# Altium footprint library Component.PcbLib: 79 footprints (part 5 of 5)
Each footprint in its own frame and in the unit in brackets; x right, y up, seen from the top. Pads: shape width x height; smd on the part's side, far side on the other; paste and mask are expansions set on the pad; w line width, h text height; cw(c..) or ccw(c..) is an arc to the next point about the centre after c.
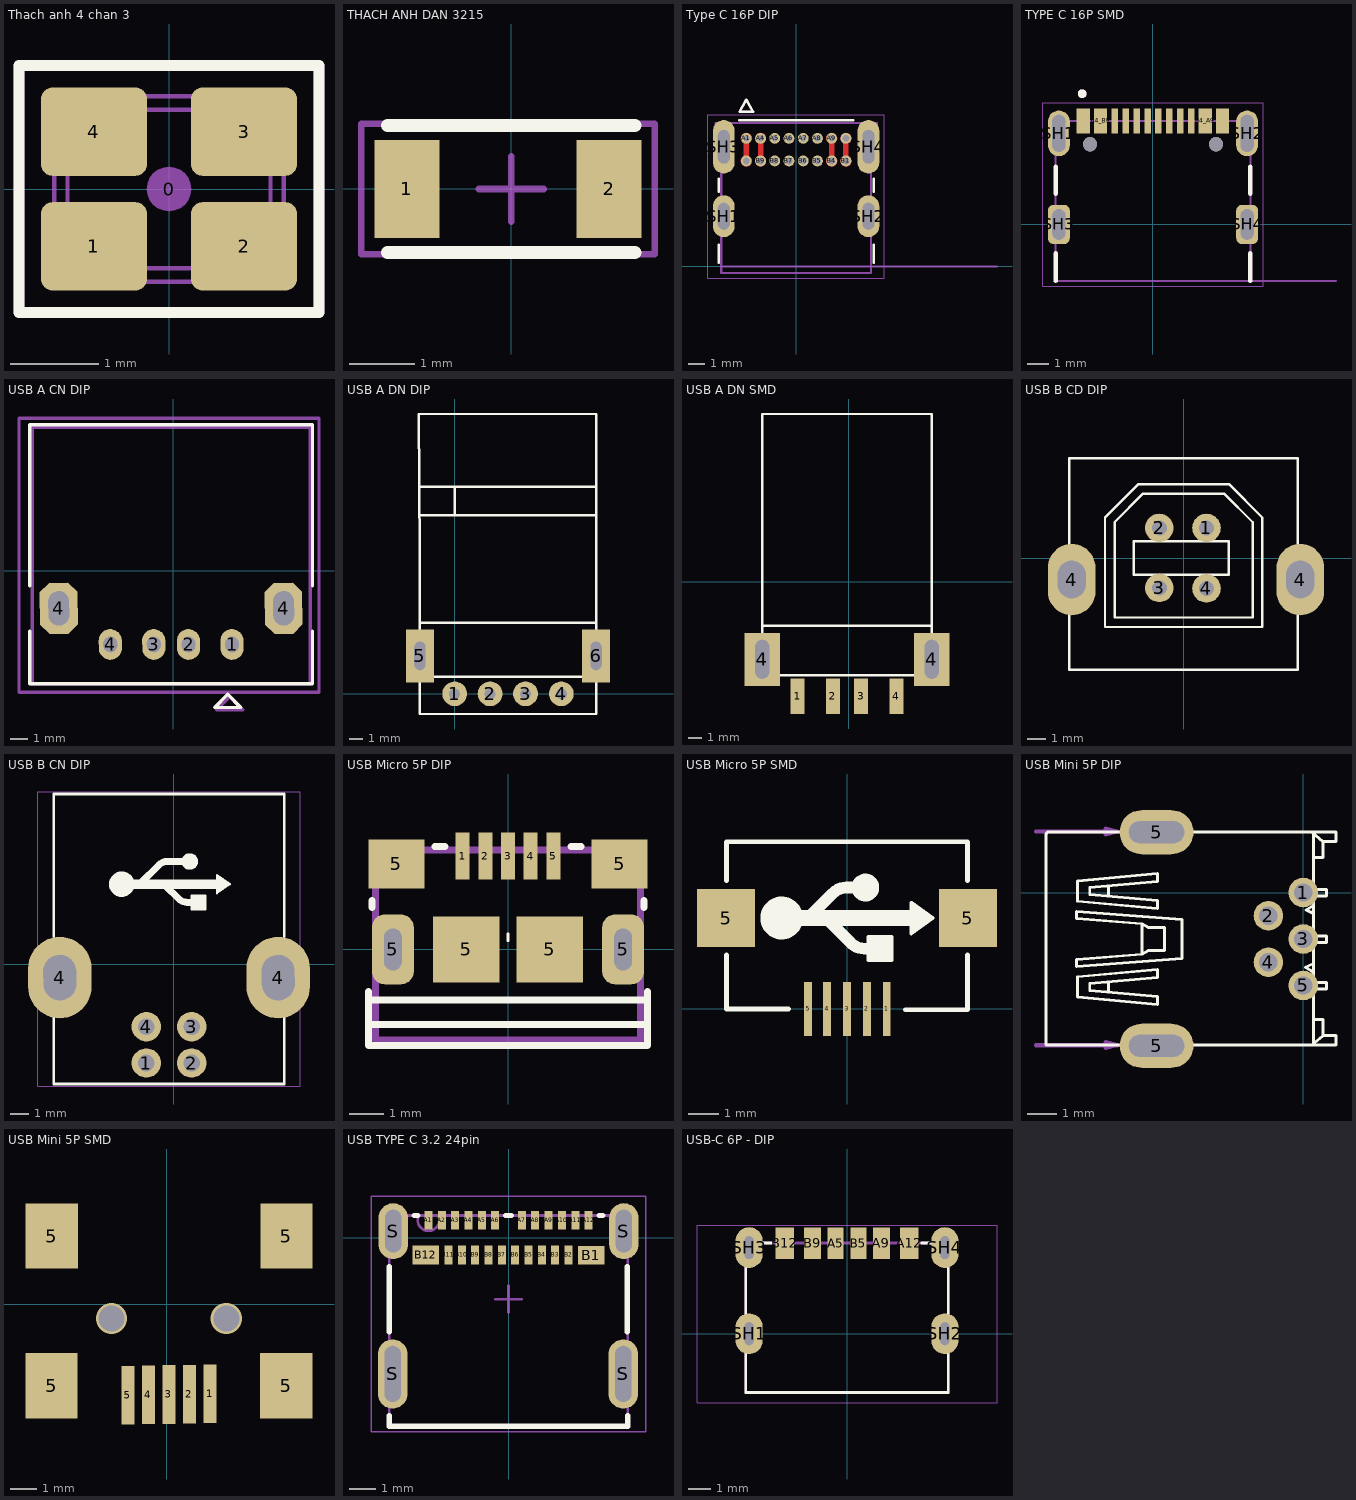
[diagram p4: the footprints below, top view; thin cyan lines are the x and y axes]

## Thach anh 4 chan 3 [mm] "SMD Crystal 4-lead leadless package"
height 0.55
pads (5):
  round 0.508 on Mech15: 0(0,0)
  rrect25% 1.2x1 smd mask+0.075: 1(-0.85,-0.65) 2(0.85,-0.65) 3(0.85,0.65) 4(-0.85,0.65)
Top Overlay:
  lines w0.127: -1.7,-1.4 1.7,-1.4 1.7,1.4 -1.7,1.4 -1.7,-1.4
Mechanical 13:
  lines w0.05: -1.3,-0.87 cw(c-1.3,-1.05) -1.12,-1.05 1.12,-1.05 cw(c1.3,-1.05) 1.3,-0.87 1.3,0.87 cw(c1.3,1.05) 1.12,1.05 -1.12,1.05 cw(c-1.3,1.05) -1.3,0.87 -1.3,-0.87 ; -1.15,-0.75 ccw(c-1,-0.75) -1,-0.9 1,-0.9 ccw(c1,-0.75) 1.15,-0.75 1.15,0.75 ccw(c1,0.75) 1,0.9 -1,0.9 ccw(c-1,0.75) -1.15,0.75 -1.15,-0.75
Mechanical 15:
  lines w0.127: -1.7,-1.4 -1.7,1.4 1.7,1.4 1.7,-1.4 -1.7,-1.4
3D body "Crystal NDK NX2520SA series.STEP": height 0.55, standoff 0, extent -1.3,-1.05 1.3,1.05

## THACH ANH DAN 3215 [mm] "Thach Anh Dan 5.08mm"
height 3
pads (2):
  rect 1x1.5 smd: 1(-1.6,0) 2(1.5,0)
Top Overlay:
  lines w0.2: -1.9,-0.975 1.9,-0.975 ; -1.9,0.975 1.9,0.975
Mechanical 13:
  lines w0.1: -2.3,-1 -2.3,1 2.2,1 2.2,-1 -2.3,-1
Mechanical 15:
  lines w0.1: -0.5,0 0.5,0 ; 0,-0.5 0,0.5
3D body "User Library-NDK_NX3215SA.STEP": height 0.8, standoff 0, extent -1.6,-0.75 1.6,0.75

## Type C 16P DIP [mm]
height 3.36
pads (20):
  round 0.648 hole 0.4 mask+0.064: A1(-2.975,7.65) A4(-2.125,7.65) A5(-1.275,7.65) A6(-0.425,7.65) A7(0.425,7.65) A8(1.275,7.65) A9(2.125,7.65) A12(2.975,7.65) B1(2.975,6.3) B4(2.125,6.3) B5(1.275,6.3) B6(0.425,6.3) B7(-0.425,6.3) B8(-1.275,6.3) B9(-2.125,6.3) B12(-2.975,6.3)
  oval 1.3x2.5 hole 0.7 slot 1.6 at 90 deg mask+0.064: SH1(-4.32,3) SH2(4.32,3)
  oval 1.3x3.2 hole 0.7 slot 2 at 90 deg mask+0.064: SH3(-4.32,7.15) SH4(4.32,7.15)
Top Layer:
  region: -2.918,7.969 -2.863,7.954 -2.811,7.929 -2.764,7.896 -2.724,7.855 -2.692,7.808 -2.669,7.756 -2.655,7.7 -2.651,7.643 -2.657,7.586 -2.673,7.531 -2.699,7.48 -2.733,7.434 -2.775,7.395 -2.825,7.363 -2.825,6.587 -2.775,6.555 -2.733,6.516 -2.699,6.47 -2.673,6.419 -2.657,6.364 -2.651,6.307 -2.655,6.25 -2.669,6.194 -2.692,6.142 -2.724,6.095 -2.764,6.054 -2.811,6.021 -2.863,5.996 -2.918,5.981 -2.975,5.976 -3.032,5.981 -3.087,5.996 -3.139,6.021 -3.186,6.054 -3.226,6.095 -3.258,6.142 -3.281,6.194 -3.295,6.25 -3.299,6.307 -3.293,6.364 -3.277,6.419 -3.251,6.47 -3.217,6.516 -3.175,6.555 -3.125,6.587 -3.125,7.363 -3.175,7.395 -3.217,7.434 -3.251,7.48 -3.277,7.531 -3.293,7.586 -3.299,7.643 -3.295,7.7 -3.281,7.756 -3.258,7.808 -3.226,7.855 -3.186,7.896 -3.139,7.929 -3.087,7.954 -3.032,7.969 -2.975,7.974
  region: -2.068,7.969 -2.013,7.954 -1.961,7.929 -1.914,7.896 -1.874,7.855 -1.842,7.808 -1.819,7.756 -1.805,7.7 -1.801,7.643 -1.807,7.586 -1.823,7.531 -1.849,7.48 -1.883,7.434 -1.925,7.395 -1.975,7.363 -1.975,6.587 -1.925,6.555 -1.883,6.516 -1.849,6.47 -1.823,6.419 -1.807,6.364 -1.801,6.307 -1.805,6.25 -1.819,6.194 -1.842,6.142 -1.874,6.095 -1.914,6.054 -1.961,6.021 -2.013,5.996 -2.068,5.981 -2.125,5.976 -2.182,5.981 -2.237,5.996 -2.289,6.021 -2.336,6.054 -2.376,6.095 -2.408,6.142 -2.431,6.194 -2.445,6.25 -2.449,6.307 -2.443,6.364 -2.427,6.419 -2.401,6.47 -2.367,6.516 -2.325,6.555 -2.275,6.587 -2.275,7.363 -2.325,7.395 -2.367,7.434 -2.401,7.48 -2.427,7.531 -2.443,7.586 -2.449,7.643 -2.445,7.7 -2.431,7.756 -2.408,7.808 -2.376,7.855 -2.336,7.896 -2.289,7.929 -2.237,7.954 -2.182,7.969 -2.125,7.974
  region: 2.182,7.969 2.237,7.954 2.289,7.929 2.336,7.896 2.376,7.855 2.408,7.808 2.431,7.756 2.445,7.7 2.449,7.643 2.443,7.586 2.427,7.531 2.401,7.48 2.367,7.434 2.325,7.395 2.275,7.363 2.275,6.587 2.325,6.555 2.367,6.516 2.401,6.47 2.427,6.419 2.443,6.364 2.449,6.307 2.445,6.25 2.431,6.194 2.408,6.142 2.376,6.095 2.336,6.054 2.289,6.021 2.237,5.996 2.182,5.981 2.125,5.976 2.068,5.981 2.013,5.996 1.961,6.021 1.914,6.054 1.874,6.095 1.842,6.142 1.819,6.194 1.805,6.25 1.801,6.307 1.807,6.364 1.823,6.419 1.849,6.47 1.883,6.516 1.925,6.555 1.975,6.587 1.975,7.363 1.925,7.395 1.883,7.434 1.849,7.48 1.823,7.531 1.807,7.586 1.801,7.643 1.805,7.7 1.819,7.756 1.842,7.808 1.874,7.855 1.914,7.896 1.961,7.929 2.013,7.954 2.068,7.969 2.125,7.974
  region: 3.032,7.969 3.087,7.954 3.139,7.929 3.186,7.896 3.226,7.855 3.258,7.808 3.281,7.756 3.295,7.7 3.299,7.643 3.293,7.586 3.277,7.531 3.251,7.48 3.217,7.434 3.175,7.395 3.125,7.363 3.125,6.587 3.175,6.555 3.217,6.516 3.251,6.47 3.277,6.419 3.293,6.364 3.299,6.307 3.295,6.25 3.281,6.194 3.258,6.142 3.226,6.095 3.186,6.054 3.139,6.021 3.087,5.996 3.032,5.981 2.975,5.976 2.918,5.981 2.863,5.996 2.811,6.021 2.764,6.054 2.724,6.095 2.692,6.142 2.669,6.194 2.655,6.25 2.651,6.307 2.657,6.364 2.673,6.419 2.699,6.47 2.733,6.516 2.775,6.555 2.825,6.587 2.825,7.363 2.775,7.395 2.733,7.434 2.699,7.48 2.673,7.531 2.657,7.586 2.651,7.643 2.655,7.7 2.669,7.756 2.692,7.808 2.724,7.855 2.764,7.896 2.811,7.929 2.863,7.954 2.918,7.969 2.975,7.974
Top Overlay:
  lines w0.15: -4.625,0.225 -4.625,1.3 ; -4.625,4.45 -4.625,5.25 ; -3.4,8.72 3.4,8.72 ; 4.625,0.225 4.625,1.3 ; 4.625,4.45 4.625,5.25 ; -3.375,9.25 -2.575,9.25 -2.975,9.95 -3.375,9.25
Top Solder:
  drawing of 4 lines, arcs and shapes, not listed
Mechanical 12:
  text "PTH Slot 1.6 +/- 0.05 X 0.7 +/- 0.05" at -4.878,12.053 h0.5
  text "PTH Slot 2.0 +/- 0.05 X 0.7 +/- 0.05" at -4.878,12.688 h0.5
Mechanical 13:
  lines w0.13: 12,0 -4.475,0 ; -4.475,0 -4.475,6.17 -4.82,6.17 -4.82,8.57 4.82,8.57 4.82,6.17 4.475,6.17 4.475,-0.4 -4.475,-0.4 -4.475,0 ; -3.375,9.25 -2.575,9.25 -2.975,9.95 -3.375,9.25
  text "PCB Edge" at 5.5,0.25 h1
Mechanical 15:
  lines w0.01: -5.27,-0.7 -5.27,9.05 5.27,9.05 5.27,-0.7 -5.27,-0.7
3D body "2137160001--3DModel-STEP-269445.STEP": height 3.36, standoff -1, extent -4.82,-0.334 4.82,8.636

## TYPE C 16P SMD [mm]
height 3.31
pads (18):
  rect 0.6x1.15 smd: A1_B12(-3.2,4.755) A4_B9(-2.4,4.755) B1_A12(3.2,4.755) B4_A9(2.4,4.755)
  rect 0.3x1.15 smd: A5(-1.25,4.755) A6(-0.25,4.755) A7(0.25,4.755) A8(1.25,4.755) B5(1.75,4.755) B6(0.75,4.755) B7(-0.75,4.755) B8(-1.75,4.755)
  oval 1x2.1 hole 0.6 slot 1.7 at 90 deg: SH1(-4.32,4.18) SH2(4.32,4.18)
  rrect50% 1x1.8 hole 0.6 slot 1.4 at 90 deg: SH3(-4.32,0) SH4(4.32,0)
  round 0.65 hole 0.65 unplated mask+0.102: ""(-2.89,3.68) ""(2.89,3.68)
Top Overlay:
  circle w0.2: c-3.25,6 r0.1
  lines w0.2: -4.47,-2.6 -4.47,-1.32 ; -4.47,1.4 -4.47,2.65 ; 4.47,-2.6 4.47,-1.32 ; 4.47,1.4 4.47,2.65
Mechanical 13:
  circle w0.2: c-3.25,6 r0.1
  lines w0.1: 8.4,-2.6 4.47,-2.6 ; 4.47,-2.6 -4.47,-2.6 -4.47,4.75 4.47,4.75 4.47,-2.6
  text "PCB EDGE" at 5.4,-2.5 h0.41
Mechanical 15:
  lines w0.05: -5.07,-2.85 5.07,-2.85 5.07,5.58 -5.07,5.58 -5.07,-2.85
3D body "step_temp.STEP": height 3.31, standoff -1.2, extent -4.47,-2.6 4.47,5.11

## USB A CN DIP [mm] "THT, USB 2.0 A Connector, 4Pin, Body 15.8 x14.5mm"
height 7.12
pads (6):
  oval 1.35x1.8 hole 0.8 slot 0.9 at 90.92 deg rot 0.92: 1(3.429,-4.318) 2(0.889,-4.318) 3(-1.143,-4.318) 4(-3.683,-4.318)
  oct 2.2x3 hole 1.2 slot 2 at 90.92 deg rot 0.92: 4(-6.697,-2.206) 4(6.443,-2.206)
Top Overlay:
  lines w0.2: -8.382,-3.556 -8.382,-6.604 8.128,-6.604 8.128,-3.556 ; -8.382,-0.889 -8.382,8.509 8.128,8.509 8.128,-0.889 ; 2.413,-8.001 3.175,-7.239 3.937,-8.001 2.413,-8.001
Mechanical 13:
  lines w0.2: -8.255,-6.604 8.001,-6.604 8.001,8.382 -8.255,8.382 -8.255,-6.604
Mechanical 15:
  lines w0.2: -9.017,-7.112 8.509,-7.112 8.509,8.89 -9.017,8.89 -9.017,-7.112 ; 2.54,-8.128 3.302,-7.366 4.064,-8.128 2.54,-8.128
3D body "User Library-USB-A-01.step": height 6.97, standoff -4.18, extent -8.027,-5.461 7.773,8.239

## USB A DN DIP [mil]
pads (6):
  round 70 hole 31: 1(0,0) 2(100,0) 3(200,0) 4(301,0)
  rect 80x150 hole 31 slot 80 at 90 deg: 5(-98,107) 6(399,107)
Top Overlay:
  lines w7: -99,200 400,200 ; -99,504 400,504 ; -99,584 400,584 ; -98,48 401,48 ; 0,504 0,584 ; -101.03,790 -99,397 -99,-57 400,-57 400,790 -101.03,790
3D body "usb_a-usb_a-lp-c.stp": height 177.17, standoff -51.16, extent -97.29,-0.22 399,784.22

## USB A DN SMD [mil] "For USB SMD"
height 150
pads (6):
  rect 40x100 smd: 1(-145,-325) 2(-45,-325) 3(35,-325) 4(135,-325)
  rect 100x150 hole 40 slot 110 at 90 deg: 4(-245,-220) 4(235,-220)
Top Overlay:
  lines w7: -245,-125 235,-125 ; -245,-265 235,-265 235,475 -245,475 -245,-265
3D body "SW3dPS-USB Series A Plug.STEP": height 73.83, standoff -103.33, extent -238.44,-262.83 234,458.83

## USB B CD DIP [mil]
pads (6):
  round 60 hole 31.5 mask+2: 1(48,63.5) 2(-51,63.5) 3(-51,-62.5) 4(48,-63.5)
  oval 100x150 hole 59.06 slot 78.74 at 90 deg mask+2: 4(-235,-45) 4(245,-45)
Top Overlay:
  lines w5: -165,-234.5 125,-234.5 ; -240,-234.5 240,-234.5 240,210 -240,210 -240,185.5 -240,-144.5 -240,-234.5 ; -165,-144.5 165,-144.5 165,85.5 95,155.5 65,155.5 -95,155.5 -165,85.5 -165,-144.5 ; -145,-124.5 -145,75.5 -85,135.5 85,135.5 145,75.5 145,-124.5 -145,-124.5 ; -105,-34.5 95,-34.5 95,35.5 -105,35.5 -105,-34.5
3D body "usb_a-usb_b-top-c.stp": height 633.86, standoff -155.36, extent -290.12,-235.13 288.62,209.76

## USB B CN DIP [mil]
pads (6):
  round 64 hole 36 mask+1: 1(-59.21,-214.16) 2(39.21,-214.16) 3(39.21,-135.42) 4(-59.21,-135.42)
  oval 137.8x177.17 hole 70.87 slot 98.43 at 91 deg mask+0: 4(-247.01,-28.72) 4(227.01,-28.72)
Top Overlay:
  circle w20: c35.06,223.21 r7.87
  circle w35: c-112.57,174 r10
  region: 68.53,119.87 39,119.87 39,149.39 68.53,149.39
  region: 121.68,174 94.12,154.31 94.12,193.69
  lines w5: 39,119.87 68.53,119.87 68.53,149.39 39,149.39 39,119.87 ; 94.12,154.31 94.12,193.69 121.68,174 94.12,154.31
  lines w6: -260,-116.14 -260,-260 240,-260 240,-116.14 ; -260,60 -260,370 240,370 240,60
  lines w15: -71.35,176.46 -31.98,215.83 cw(c-14.15,198) -14.15,223.21 35.06,223.21 ; -18.2,171.54 11.33,142.01 ccw(c29.16,159.84) 29.16,134.63 39,134.63
  lines w20: -92.89,174 94.12,174
Mechanical 15:
  lines w2: -295,-265 275,-265 275,375 -295,375 -295,-265
3D body "c-0292304-01-b-3d.stp": height 452.76, standoff -154.56, extent -293.24,-242.11 273.24,376

## USB Micro 5P DIP [mm]
pads (11):
  rect 0.4x1.35 smd mask+0.05: 1(-1.3,2.675) 2(-0.65,2.675) 3(0,2.675) 4(0.65,2.675) 5(1.3,2.675)
  rrect60% 1.2x2 hole 0.5 slot 1.2 at 90 deg: 5(-3.3,0) 5(3.3,0)
  rect 1.6x1.4 smd: 5(-3.2,2.45) 5(3.2,2.45)
  rect 1.9x1.9 smd paste-10: 5(-1.2,0) 5(1.2,0)
Top Overlay:
  lines w0.08: 0,0.25 0,0.45
  lines w0.2: -4,-2.15 4,-2.15 ; -4,-1.45 4,-1.45 ; -4,-1.2 -4,-2.75 4,-2.75 4,-1.2 ; -3.9,1.2 -3.9,1.4 ; -2.1,2.95 -1.8,2.95 ; 1.8,2.95 2.1,2.95 ; 3.9,1.2 3.9,1.4
Mechanical 16:
  lines w0.2: -3.8,-2.6 3.8,-2.6 3.8,2.85 -3.8,2.85 -3.8,-2.6
Mechanical 29:
  text ".Designator" at 0.6,-1.2 h1.52
3D body "10118193.step": height 2.85, standoff -0.75, extent -3.929,-2.76 3.928,2.9

## USB Micro 5P SMD [mil]
height 153.54
pads (7):
  rect 10x70 smd: 1(51.18,0) 2(25.59,0) 3(0,0) 4(-25.59,0) 5(-50,0)
  rect 74.8x74.8 smd: 5(-155.51,116.84) 5(155.51,116.84)
Top Overlay:
  circle w35: c-84.07,117 r10
  circle w20: c23.56,156.21 r7.87
  region: 110.18,117 82.62,97.31 82.62,136.69
  region: 57.03,62.87 27.5,62.87 27.5,92.39 57.03,92.39
  lines w5: 27.5,62.87 27.5,92.39 57.03,92.39 57.03,62.87 27.5,62.87 ; 82.62,97.31 110.18,117 82.62,136.69 82.62,97.31
  lines w6: -155,69.8 -155,0 -75,0 ; -155,164.84 -155,215 155,215 155,164.84 ; 75,-1 155,-1 155,69.8
  lines w15: -52.85,114.46 -18.48,148.83 cw(c-0.65,131) -0.65,156.21 22.5,156.21 ; -24.7,114.54 4.83,85.01 ccw(c22.66,102.84) 22.66,77.63 42.5,77.63
  lines w20: -82.5,117 92.5,117
3D body "Micro USB.STP": height 106.7, standoff -9.04, extent -156.58,4.51 157.59,218.29

## USB Mini 5P DIP [mil]
pads (7):
  round 40 hole 25: 1(0,0) 2(-47.24,-31.5) 3(0,-62.99) 4(-47.24,-94.49) 5(0,-125.98)
  oval 100x60 hole 30 slot 75 at 0 deg: 5(-198.82,-207.68) 5(-198.82,81.69)
Top Overlay:
  lines w4: -348.43,-206.69 44.29,-206.69 44.29,-193.9 26.57,-193.9 ; -348.43,79.72 -346.46,81.69 44.29,81.69 44.29,68.9 26.57,68.9 ; -348.43,-206.69 -348.43,79.72 ; -289.37,-124.02 -289.37,-132.87 -197.83,-140.75 -197.83,-151.57 -306.1,-141.73 -306.1,-114.17 -197.83,-104.33 -197.83,-115.16 -289.37,-123.03 ; -289.37,-2.95 -197.83,-10.83 -197.83,-21.65 -306.1,-11.81 -306.1,15.75 -197.83,25.59 -197.83,14.76 -289.37,6.89 -289.37,-1.97 ; -263.78,-133.86 -263.78,-123.03 ; -263.78,-2.95 -263.78,7.87 ; 11.81,-206.69 26.57,-193.9 ; 11.81,81.69 26.57,68.9 ; 13.78,-130.91 31.5,-130.91 31.5,-122.05 13.78,-122.05 ; 13.78,-108.27 2.95,-101.38 13.78,-96.46 ; 13.78,-67.91 31.5,-67.91 31.5,-59.05 13.78,-59.05 ; 13.78,-28.54 3.94,-23.62 13.78,-17.72 ; 13.78,-4.92 31.5,-4.92 31.5,3.94 13.78,3.94 ; -218.5,-83.66 -307.09,-90.55 -307.09,-100.39 -164.37,-89.57 -164.37,-62.99 -164.37,-36.42 -307.09,-25.59 -307.09,-35.43 -218.5,-42.32 ; -218.5,-83.66 -210.63,-78.74 -187.99,-78.74 -187.99,-62.99 -187.99,-47.24 -210.63,-47.24 -218.5,-42.32 ; -218.5,-83.66 -218.5,-62.99 -218.5,-42.32 ; 26.57,-193.9 26.57,-172.24 13.78,-172.24 13.78,-206.69 13.78,81.69 13.78,47.24 26.57,47.24 26.57,68.9
Mechanical 1:
  lines w6: -362.2,-206.69 -251.97,-206.69 ; -362.2,82.68 -251.97,82.68 ; -196.85,-194.88 -175.2,-194.88 cw(c-175.2,-208.66) -161.42,-208.66 cw(c-175.2,-208.66) -175.2,-222.44 -224.41,-222.44 cw(c-224.41,-210.63) -236.22,-210.63 -236.22,-206.69 cw(c-224.41,-206.69) -224.41,-194.88 -177.17,-194.88 ; -196.85,94.49 -175.2,94.49 cw(c-175.2,80.71) -161.42,80.71 cw(c-175.2,80.71) -175.2,66.93 -224.41,66.93 cw(c-224.41,78.74) -236.22,78.74 -236.22,82.68 cw(c-224.41,82.68) -224.41,94.49 -177.17,94.49 ; -251.97,-206.69 -267.72,-202.76 -267.72,-210.63 -251.97,-206.69 ; -251.97,82.68 -267.72,78.74 -267.72,86.61 -251.97,82.68
3D body "usb-mini-b-th.stp": height 161.77, standoff -64.61, extent -345.33,-214.07 9,89.07

## USB Mini 5P SMD [mm]
pads (9):
  rect 0.5x2.25 smd: 1(1.651,-3.429) 2(0.864,-3.442) 3(0.076,-3.454) 4(-0.711,-3.467) 5(-1.499,-3.48)
  rect 2x2.5 smd: 5(-4.424,-3.124) 5(-4.42,2.616) 5(4.576,-3.124) 5(4.58,2.616)
via 2.276,-0.544 diameter 1.2 hole 1
via -2.124,-0.544 diameter 1.2 hole 1
3D body "User Library-USB_mini_B.step": height 3.95, standoff -1, extent -5.274,-3.797 5.426,5.403

## USB TYPE C 3.2 24pin [mm] "USB-C Receptacle Connector 24 Position Surface Mount, 24 Position, Body 8.94x7.90mm"
height 3.24
pads (28):
  rect 0.3x0.7 smd: A1(-3,0.655) A2(-2.5,0.655) A3(-2,0.655) A4(-1.5,0.655) A5(-1,0.655) A6(-0.5,0.655) A7(0.5,0.655) A8(1,0.655) A9(1.5,0.655) A10(2,0.655) A11(2.5,0.655) A12(3,0.655) B2(2.25,-0.645) B3(1.75,-0.645) B4(1.25,-0.645) B5(0.75,-0.645) B6(0.25,-0.645) B7(-0.25,-0.645) B8(-0.75,-0.645) B9(-1.25,-0.645) B10(-1.75,-0.645) B11(-2.25,-0.645)
  rect 1x0.7 smd: B1(3.1,-0.655) B12(-3.1,-0.645)
  oval 1.1x2.6 hole 2.1 slot 0.6 at 0 deg unplated: S(-4.34,-5.105) S(4.3,-5.105)
  oval 1.1x2.1 hole 1.6 slot 0.6 at 0 deg unplated: S(-4.32,0.245) S(4.32,0.245)
Top Overlay:
  lines w0.2: -4.47,-6.675 -4.47,-7.065 4.47,-7.065 4.47,-6.675 ; -4.47,-3.525 -4.47,-1.075 ; -3.54,0.835 -3.465,0.835 -3.4,0.835 ; -0.1,0.835 0,0.835 0.1,0.835 ; 3.39,0.835 3.465,0.835 3.53,0.835 ; 4.45,-3.525 4.45,-1.075
Mechanical 13:
  lines w0.1: -3.368,0.813 ccw(c-3,0.655) -2.632,0.813 ; -4.47,-7.065 4.47,-7.065 4.47,0.835 -4.47,0.835 -4.47,-7.065
Mechanical 15:
  lines w0.05: -5.15,-7.265 5.15,-7.265 5.15,1.55 -5.15,1.55 -5.15,-7.265
  lines w0.1: -0.5,-2.3 0,-2.3 ; 0,-2.8 0,-2.3 ; 0,-1.8 0,-2.3 ; 0.5,-2.3 0,-2.3
3D body "Molex - 1054500101 v7.step": height 3.21, standoff -0.75, extent -4.47,-7.065 4.47,0.835

## USB-C 6P - DIP [mm] "USB-C 6P"
height 3.16
pads (10):
  rect 0.7x1.4 smd: A5(-0.5,3.99) B5(0.5,3.99)
  rect 0.76x1.4 smd: A9(1.52,3.99) B9(-1.52,3.99)
  rect 0.8x1.4 smd: A12(2.75,3.99) B12(-2.75,3.99)
  oval 1.2x1.8 hole 0.4 slot 1 at 90 deg: SH1(-4.32,0) SH2(4.32,0) SH3(-4.32,3.8) SH4(4.32,3.8)
Top Overlay:
  lines w0.127: -3.3,4 -4.47,4 -4.47,-1.12 -4.47,-2.6 4.47,-2.6 4.47,-1.12 4.47,4 3.3,4
Mechanical 13:
  lines w0.127: -4.47,-2.6 4.47,-2.6 4.47,4 -4.47,4 -4.47,-2.6
Mechanical 15:
  lines w0.05: -6.62,-3.05 6.62,-3.05 6.62,4.79 -6.62,4.79 -6.62,-3.05
3D body "step_temp.STEP": height 3.18, standoff -0.03, extent -5.77,-2.622 5.77,4.518